# Altium integrated library ON Semi Wideband Amplifier.IntLib: 1 symbol
Pins are listed as number, name and electrical type; pins without a type are passive.

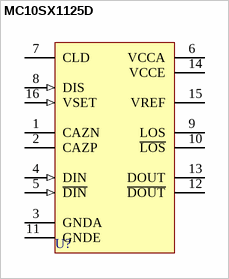
[diagram p0: symbol MC10SX1125D]

## MC10SX1125D
designator U?
622 Mb/s Fiber Optic Post Amplifier; Published: 15-Apr-2002; LatestRevisionDate: 13-Apr-2006; LatestRevisionNote: IPC-7351 Footprint Added.; DatasheetVersion: 1996; PackageVersion: Oct-1999; PackageReference: 751B-05; Publisher: Altium Limited; PackageDescription: 16-Pin Small Outline Integrated Circuit 1.27 mm Pitch; Code_JEDEC: MS-012-AC; Code_IPC: SOIC127P600-16; ComponentLink1Description: Manufacturer Link; ComponentLink1URL: http://www.onsemi.com/
footprint 751B-05_N (SOIC, 16-Leads, Body 9.9x3.9mm, Pitch 1.27mm, IPC Medium Density)
footprint 751B-05_L (SOIC, 16-Leads, Body 9.9x3.9mm, Pitch 1.27mm, IPC High Density)
footprint 751B-05_M (SOIC, 16-Leads, Body 9.9x3.9mm, Pitch 1.27mm, IPC Low Density)
pins: 1 CAZN, 2 CAZP, 3 GNDA (power), 4 DIN (in), 5 ~{DIN} (in), 6 VCCA (power), 7 CLD, 8 DIS (in), 9 LOS (oe), 10 ~{LOS} (oe), 11 GNDE (power), 12 ~{DOUT} (oe), 13 DOUT (oe), 14 VCCE (power), 15 VREF (power), 16 VSET (in)